# EAGLE library part 105133-0011 (library misc)
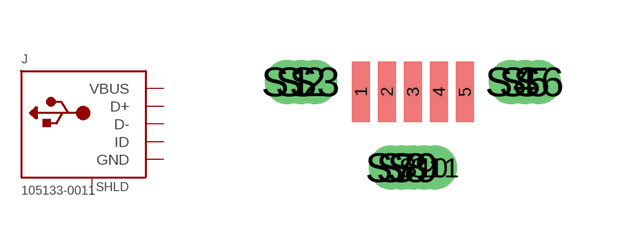
[diagram p10: symbol with the pads of 105133-0011; footprint 105133-0011]

Designator prefix J

## 105133-0011  [105133-0011]
1  VBUS  pwr
2  D-
3  D+
4  ID
5  GND  pwr
S1  P$1
S2  P$1
S3  P$1
S4  P$1
S5  P$1
S6  P$1
S7  P$1
S8  P$1
S9  P$1
S10  P$1
S11  P$1

## Footprint 105133-0011 (pad centres in mm)
smd 0.45 x 1.5: 1 -1.3,0.75; 2 -0.65,0.75; 3 0,0.75; 4 0.65,0.75; 5 1.3,0.75
drill 0.5 pad 1.1: S1 -3.15,1; S2 -2.8,1; S3 -2.45,1; S4 2.45,1; S5 2.8,1; S6 3.15,1; S7 -0.55,-1.15; S8 -0.275,-1.15; S9 0,-1.15; S10 0.275,-1.15; S11 0.55,-1.15